# Altium footprint library copy_connectors.PcbLib: 1 footprints
Each footprint in its own frame and in the unit in brackets; x right, y up, seen from the top. Pads: shape width x height; smd on the part's side, far side on the other; paste and mask are expansions set on the pad; w line width, h text height; cw(c..) or ccw(c..) is an arc to the next point about the centre after c.
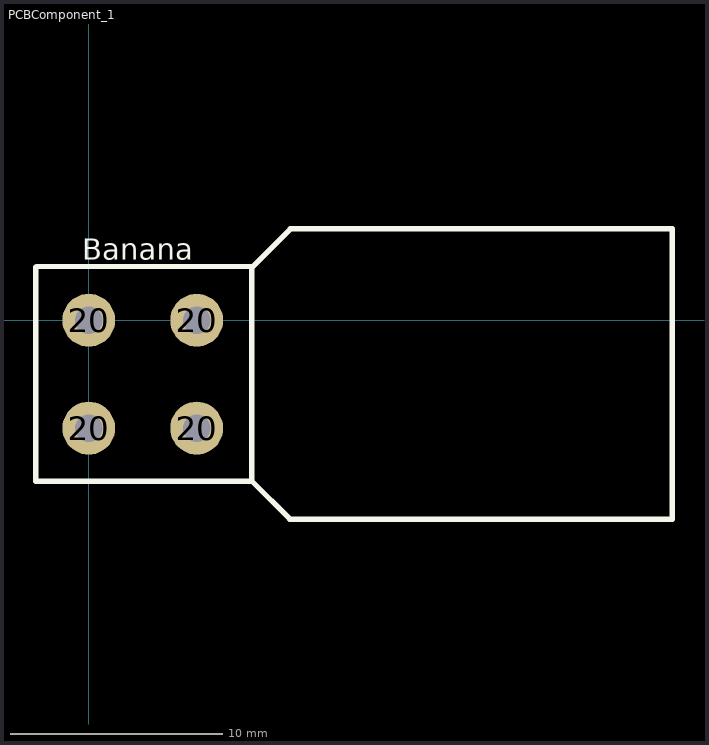
[diagram p0: the footprint, top view; thin cyan lines are the x and y axes]

## PCBComponent_1 [mm]
pads (4):
  round 2.5 hole 1.3: 20(0,-5.1) 20(0,0) 20(5.1,-5.1) 20(5.1,0)
Top Overlay:
  lines w0.254: -2.5,2.5 -2.5,-7.6 7.7,-7.6 ; -2.453,2.54 7.747,2.54 ; 7.7,-7.6 7.7,2.5 7.707,2.5 9.525,4.318 27.559,4.318 27.559,-9.398 9.498,-9.398 7.7,-7.6
  text "Banana" at -0.308,2.867 h1